# Altium schematic symbol library SCH - ARM CORTEX - SI LABS EFM32TG11B5.SCHLIB: 1 symbol
Pins are listed as number, name and electrical type; pins without a type are passive.

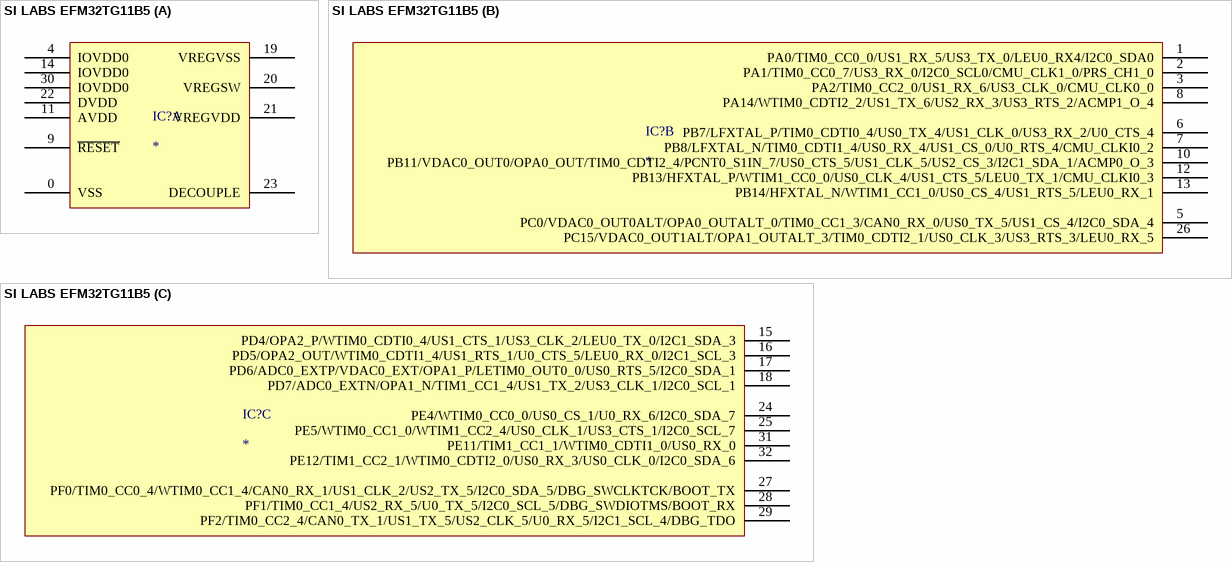
[diagram p0: symbol SI LABS EFM32TG11B5]

## SI LABS EFM32TG11B5
designator IC?
part A pins: 0 VSS, 4 IOVDD0, 9 ~{RESET}, 11 AVDD, 14 IOVDD0, 19 VREGVSS, 20 VREGSW, 21 VREGVDD, 22 DVDD, 23 DECOUPLE, 30 IOVDD0
part B pins: 1 PA0/TIM0_CC0_0/US1_RX_5/US3_TX_0/LEU0_RX4/I2C0_SDA0, 2 PA1/TIM0_CC0_7/US3_RX_0/I2C0_SCL0/CMU_CLK1_0/PRS_CH1_0, 3 PA2/TIM0_CC2_0/US1_RX_6/US3_CLK_0/CMU_CLK0_0, 5 PC0/VDAC0_OUT0ALT/OPA0_OUTALT_0/TIM0_CC1_3/CAN0_RX_0/US0_TX_5/US1_CS_4/I2C0_SDA_4, 6 PB7/LFXTAL_P/TIM0_CDTI0_4/US0_TX_4/US1_CLK_0/US3_RX_2/U0_CTS_4, 7 PB8/LFXTAL_N/TIM0_CDTI1_4/US0_RX_4/US1_CS_0/U0_RTS_4/CMU_CLKI0_2, 8 PA14/WTIM0_CDTI2_2/US1_TX_6/US2_RX_3/US3_RTS_2/ACMP1_O_4, 10 PB11/VDAC0_OUT0/OPA0_OUT/TIM0_CDTI2_4/PCNT0_S1IN_7/US0_CTS_5/US1_CLK_5/US2_CS_3/I2C1_SDA_1/ACMP0_O_3, 12 PB13/HFXTAL_P/WTIM1_CC0_0/US0_CLK_4/US1_CTS_5/LEU0_TX_1/CMU_CLKI0_3, 13 PB14/HFXTAL_N/WTIM1_CC1_0/US0_CS_4/US1_RTS_5/LEU0_RX_1, 26 PC15/VDAC0_OUT1ALT/OPA1_OUTALT_3/TIM0_CDTI2_1/US0_CLK_3/US3_RTS_3/LEU0_RX_5
part C pins: 15 PD4/OPA2_P/WTIM0_CDTI0_4/US1_CTS_1/US3_CLK_2/LEU0_TX_0/I2C1_SDA_3, 16 PD5/OPA2_OUT/WTIM0_CDTI1_4/US1_RTS_1/U0_CTS_5/LEU0_RX_0/I2C1_SCL_3, 17 PD6/ADC0_EXTP/VDAC0_EXT/OPA1_P/LETIM0_OUT0_0/US0_RTS_5/I2C0_SDA_1, 18 PD7/ADC0_EXTN/OPA1_N/TIM1_CC1_4/US1_TX_2/US3_CLK_1/I2C0_SCL_1, 24 PE4/WTIM0_CC0_0/US0_CS_1/U0_RX_6/I2C0_SDA_7, 25 PE5/WTIM0_CC1_0/WTIM1_CC2_4/US0_CLK_1/US3_CTS_1/I2C0_SCL_7, 27 PF0/TIM0_CC0_4/WTIM0_CC1_4/CAN0_RX_1/US1_CLK_2/US2_TX_5/I2C0_SDA_5/DBG_SWCLKTCK/BOOT_TX, 28 PF1/TIM0_CC1_4/US2_RX_5/U0_TX_5/I2C0_SCL_5/DBG_SWDIOTMS/BOOT_RX, 29 PF2/TIM0_CC2_4/CAN0_TX_1/US1_TX_5/US2_CLK_5/U0_RX_5/I2C1_SCL_4/DBG_TDO, 31 PE11/TIM1_CC1_1/WTIM0_CDTI1_0/US0_RX_0, 32 PE12/TIM1_CC2_1/WTIM0_CDTI2_0/US0_RX_3/US0_CLK_0/I2C0_SDA_6